# EAGLE library part OPENMVH7/+ (library OpenMVH7)
OpenMV H7 / H7+ For more Information, please visit the GitHub <https://github.com/Robotik-Lessing-Gymnasium-Neu-Ulm/EAGLE-LIBARIES> page. Please keep in mind, the H7+ J3 Header is slighty different and this one is designed for the normal version (H7)
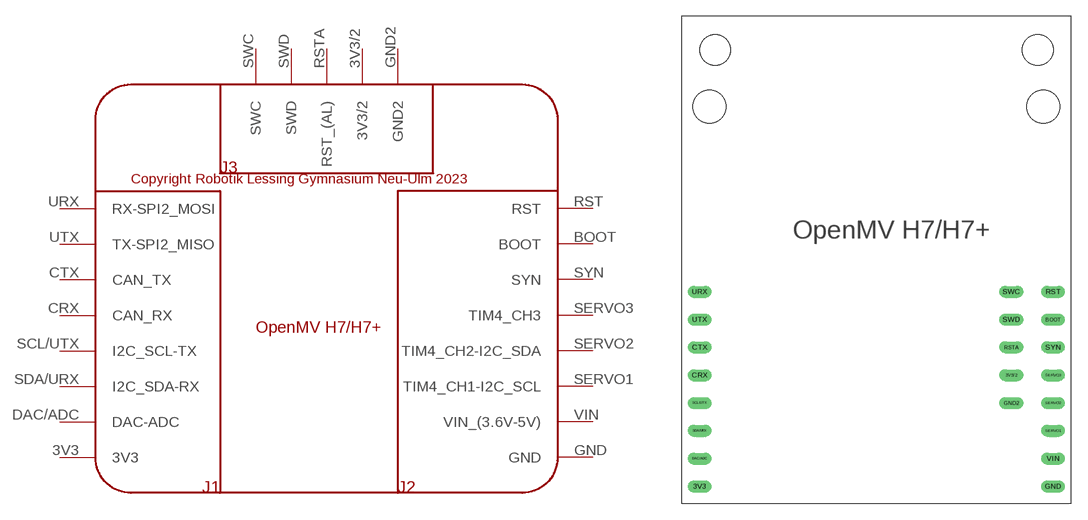
[diagram p0: symbol with the pads of OPENMVH7/+; footprint OPENMVH7/+]

Designator prefix -

## OPENMVH7/+  [OPENMVH7/+]
3V3  3V3
3V3/2  3V3/2
BOOT  BOOT
CRX  CAN_RX
CTX  CAN_TX
DAC/ADC  DAC-ADC
GND  GND
GND2  GND2
RST  RST
RSTA  RST_(AL)
SCL/UTX  I2C_SCL-TX
SDA/URX  I2C_SDA-RX
SERVO1  TIM4_CH1-I2C_SCL
SERVO2  TIM4_CH2-I2C_SDA
SERVO3  TIM4_CH3
SWC  SWC
SWD  SWD
SYN  SYN
URX  RX-SPI2_MOSI
UTX  TX-SPI2_MISO
VIN  VIN_(3.6V-5V)

## Footprint OPENMVH7/+ (pad centres in mm)
OpenMV H7/H7+
drill 0.6 long: 3V3 -16.13,-20.705; 3V3/2 12.32,-10.545; BOOT 16.13,-5.465; CRX -16.13,-10.545; CTX -16.13,-8.005; DAC/ADC -16.13,-18.165; GND 16.13,-20.705; GND2 12.32,-13.085; RST 16.13,-2.925; RSTA 12.32,-8.005; SCL/UTX -16.13,-13.085; SDA/URX -16.13,-15.625; SERVO1 16.13,-15.625; SERVO2 16.13,-13.085; SERVO3 16.13,-10.545; SWC 12.32,-2.925; SWD 12.32,-5.465; SYN 16.13,-8.005; URX -16.13,-2.925; UTX -16.13,-5.465; VIN 16.13,-18.165